# Altium footprint library ECE453-Interface.PcbLib: 37 footprints (part 2 of 3)
Each footprint in its own frame and in the unit in brackets; x right, y up, seen from the top. Pads: shape width x height; smd on the part's side, far side on the other; paste and mask are expansions set on the pad; w line width, h text height; cw(c..) or ccw(c..) is an arc to the next point about the centre after c.
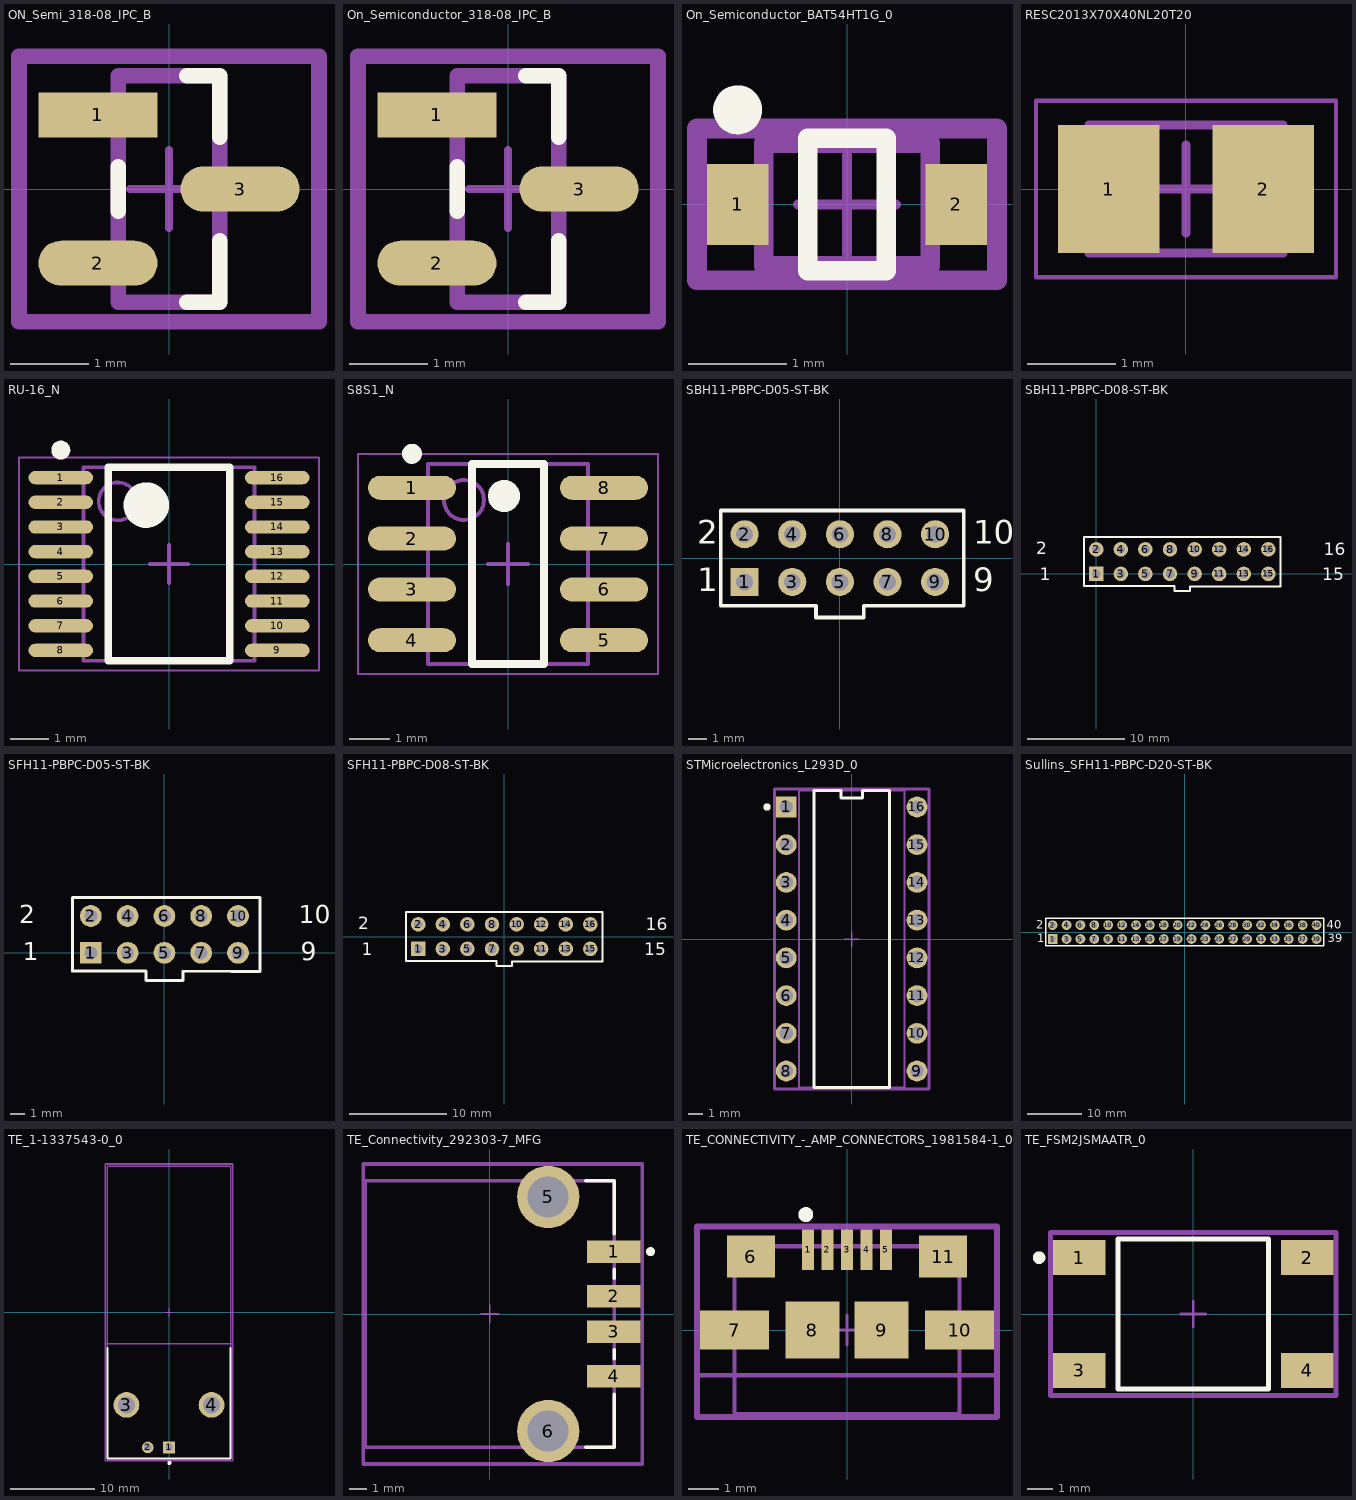
[diagram p1: the footprints below, top view; thin cyan lines are the x and y axes]

## ON_Semi_318-08_IPC_B [mm] "npn"
pads (3):
  rect 1.524x0.578 smd paste+0 mask+0: 1(-0.91,0.95)
  rrect100% 1.524x0.578 smd paste+0 mask+0: 2(-0.91,-0.95) 3(0.91,0)
Top Overlay:
  lines w0.2: -0.65,-0.286 -0.65,0.286 ; 0.227,-1.45 0.65,-1.45 0.65,-0.664 ; 0.227,1.45 0.65,1.45 0.65,0.664
Mechanical 10:
  lines w0.2: -1.922,-1.7 1.922,-1.7 1.922,1.7 -1.922,1.7 -1.922,-1.7
Mechanical 12:
  lines w0.2: -0.65,-1.45 0.65,-1.45 0.65,1.45 -0.65,1.45 -0.65,-1.45
Mechanical 15:
  lines w0.1: -0.5,0 0.5,0 ; 0,-0.5 0,0.5
  lines w0.2: -1.922,-1.7 1.922,-1.7 1.922,1.7 -1.922,1.7 -1.922,-1.7
3D body "Trans_ON_Semi_BC847BLT1G_eec.STEP": height 0.25, standoff 0, extent -1.922,-1.7 1.922,1.7

## On_Semiconductor_318-08_IPC_B [mm] "n=fet"
pads (3):
  rect 1.524x0.578 smd paste+0 mask+0: 1(-0.91,0.95)
  rrect100% 1.524x0.578 smd paste+0 mask+0: 2(-0.91,-0.95) 3(0.91,0)
Top Overlay:
  lines w0.2: -0.65,-0.286 -0.65,0.286 ; 0.227,-1.45 0.65,-1.45 0.65,-0.664 ; 0.227,1.45 0.65,1.45 0.65,0.664
Mechanical 10:
  lines w0.2: -1.922,-1.7 -1.922,1.7 1.922,1.7 1.922,-1.7 -1.922,-1.7
Mechanical 12:
  lines w0.2: -0.65,-1.45 -0.65,1.45 0.65,1.45 0.65,-1.45 -0.65,-1.45
Mechanical 15:
  lines w0.1: -0.5,0 0.5,0 ; 0,-0.5 0,0.5
  lines w0.2: -1.922,-1.7 -1.922,1.7 1.922,1.7 1.922,-1.7 -1.922,-1.7
3D body "Trans_On_Semiconductor_BSS138LT3G_eec.STEP": height 0.25, standoff 0, extent -1.922,-1.7 1.922,1.7

## On_Semiconductor_BAT54HT1G_0 [mm] "schotky"
pads (2):
  rect 0.63x0.83 smd paste+0 mask+0: 1(-1.115,0) 2(1.115,0)
Top Overlay:
  circle w0.25: c-1.115,0.965 r0.125
  lines w0.2: -0.4,-0.675 0.4,-0.675 0.4,0.675 -0.4,0.675 -0.4,-0.675
Mechanical 10:
  lines w0.2: -1.53,-0.775 1.53,-0.775 1.53,0.775 -1.53,0.775 -1.53,-0.775
Mechanical 12:
  lines w0.2: -0.85,-0.625 0.85,-0.625 0.85,0.625 -0.85,0.625 -0.85,-0.625
Mechanical 15:
  lines w0.1: -0.5,0 0.5,0 ; 0,-0.5 0,0.5
  lines w0.2: -1.53,-0.775 1.53,-0.775 1.53,0.775 -1.53,0.775 -1.53,-0.775
3D body "Diode_On_Semiconductor_BAT54HT1G_eec.STEP": height 0.25, standoff 0, extent -1.53,-0.775 1.53,0.775

## RESC2013X70X40NL20T20 [mm] "Chip Resistor, 2-Leads, Body 2.2x1.35mm, IPC Medium Density"
height 0.7
pads (2):
  rect 1.15x1.45 smd: 1(-0.875,0) 2(0.875,0)
Mechanical 13:
  lines w0.1: -1.1,-0.725 1.1,-0.725 1.1,0.725 -1.1,0.725 -1.1,-0.725
Mechanical 15:
  lines w0.05: -1.7,-1 1.7,-1 1.7,1 -1.7,1 -1.7,-1
  lines w0.1: -0.5,0 0.5,0 ; 0,-0.5 0,0.5
3D body: height 0.7, standoff 0, extent -1.1,-0.725 -0.7,0.725
3D body: height 0.7, standoff 0, extent -0.7,-0.725 0.7,0.725
3D body: height 0.7, standoff 0, extent 0.7,-0.725 1.1,0.725

## RU-16_N [mm] "capacitive moisture sensor a2d"
height 1.2
pads (16):
  oval 1.7x0.35 smd: 1(-2.85,2.275) 2(-2.85,1.625) 3(-2.85,0.975) 4(-2.85,0.325) 5(-2.85,-0.325) 6(-2.85,-0.975) 7(-2.85,-1.625) 8(-2.85,-2.275) 9(2.85,-2.275) 10(2.85,-1.625) 11(2.85,-0.975) 12(2.85,-0.325) 13(2.85,0.325) 14(2.85,0.975) 15(2.85,1.625) 16(2.85,2.275)
Top Overlay:
  circle w0.6: c-0.6,1.55 r0.3
  circle w0.25: c-2.85,3 r0.125
  lines w0.2: -1.6,-2.55 1.6,-2.55 1.6,2.55 -1.6,2.55 -1.6,-2.55
Mechanical 13:
  circle w0.1: c-1.35,1.65 r0.5
  lines w0.1: -2.25,-2.55 2.25,-2.55 2.25,2.55 -2.25,2.55 -2.25,-2.55
Mechanical 15:
  lines w0.05: -3.95,-2.8 3.95,-2.8 3.95,2.8 -3.95,2.8 -3.95,-2.8
  lines w0.1: -0.5,0 0.5,0 ; 0,-0.5 0,0.5
3D body: height 1.2, standoff 0.05, extent -2.25,-2.55 2.25,2.55

## S8S1_N [mm] "moisture sensor mcu"
height 1.75
pads (8):
  oval 2.2x0.6 smd: 1(-2.4,1.905) 2(-2.4,0.635) 3(-2.4,-0.635) 4(-2.4,-1.905) 5(2.4,-1.905) 6(2.4,-0.635) 7(2.4,0.635) 8(2.4,1.905)
Top Overlay:
  circle w0.4: c-0.1,1.7 r0.2
  circle w0.25: c-2.4,2.755 r0.125
  lines w0.2: -0.9,-2.5 0.9,-2.5 0.9,2.5 -0.9,2.5 -0.9,-2.5
Mechanical 13:
  circle w0.1: c-1.1,1.6 r0.5
  lines w0.1: -2,-2.5 2,-2.5 2,2.5 -2,2.5 -2,-2.5
Mechanical 15:
  lines w0.05: -3.75,-2.75 3.75,-2.75 3.75,2.75 -3.75,2.75 -3.75,-2.75
  lines w0.1: -0.5,0 0.5,0 ; 0,-0.5 0,0.5
3D body: height 1.75, standoff 0.1, extent -2,-2.5 2,2.5

## SBH11-PBPC-D05-ST-BK [mm] "Connector; Header; 5x2 Position"
pads (10):
  rect 1.5x1.5 hole 0.9: 1(-5.08,-1.27)
  round 1.5 hole 0.9: 2(-5.08,1.27) 3(-2.54,-1.27) 4(-2.54,1.27) 5(0,-1.27) 6(0,1.27) 7(2.54,-1.27) 8(2.54,1.27) 9(5.08,-1.27) 10(5.08,1.27)
Top Overlay:
  lines w0.2: -6.35,-2.54 -6.35,2.54 6.604,2.54 6.604,-2.54 ; -6.34,-2.538 -1.27,-2.538 -1.27,-3.175 1.27,-3.175 1.27,-2.54 4.592,-2.54 ; 4.599,-2.547 6.604,-2.547
  text "10" at 7.112,0.762 h1.27
  text "9" at 7.112,-1.778 h1.27
  text "1" at -7.62,-1.778 h1.27
  text "2" at -7.62,0.762 h1.27
3D body "SBH11-_ _ _C-D05-ST-_ _.STEP": height 8.95, standoff -3.15, extent -10.1,-4.445 10.1,4.655

## SBH11-PBPC-D08-ST-BK [mm] "Connector; Header; 8x2 Position"
pads (16):
  rect 1.5x1.5 hole 0.9: 1(0,0)
  round 1.5 hole 0.9: 2(0,2.54) 3(2.54,0) 4(2.54,2.54) 5(5.08,0) 6(5.08,2.54) 7(7.62,0) 8(7.62,2.54) 9(10.16,0) 10(10.16,2.54) 11(12.7,0) 12(12.7,2.54) 13(15.24,0) 14(15.24,2.54) 15(17.78,0) 16(17.78,2.54)
Top Overlay:
  lines w0.2: -1.27,-1.27 -1.27,3.81 19.05,3.81 19.05,-1.27 ; -1.26,-1.268 8.1,-1.268 8.1,-1.758 8.102,-1.756 9.679,-1.756 9.679,-1.277 19.027,-1.277 19.061,-1.243
  text "2" at -6.223,2.032 h1.27
  text "1" at -5.842,-0.635 h1.27
  text "15" at 23.368,-0.635 h1.27
  text "16" at 23.495,1.905 h1.27
3D body "SBH11-_ _ _C-D08-ST-_ _.STEP": height 9.3, standoff -2.8, extent -4.959,-3.196 22.861,5.904

## SFH11-PBPC-D05-ST-BK [mm] "CONN HEADR FMALE 10POS .1\" DL AU"
pads (10):
  rect 1.5x1.5 hole 0.9: 1(-5.08,0)
  round 1.5 hole 0.9: 2(-5.08,2.54) 3(-2.54,0) 4(-2.54,2.54) 5(0,0) 6(0,2.54) 7(2.54,0) 8(2.54,2.54) 9(5.08,0) 10(5.08,2.54)
Top Overlay:
  lines w0.2: -6.35,-1.27 -6.35,3.81 6.604,3.81 6.604,-1.27 ; -6.34,-1.268 -1.27,-1.268 -1.27,-1.905 1.27,-1.905 1.27,-1.27 4.592,-1.27 ; 4.599,-1.277 6.604,-1.277
  text "10" at 9.271,2.032 h1.27
  text "9" at 9.398,-0.508 h1.27
  text "1" at -9.779,-0.508 h1.27
  text "2" at -10.033,2.032 h1.27
3D body "SFH11-P_ _C-D05-ST-_ _.STEP": height 8.85, standoff -2.85, extent -8.763,-2.611 9.017,4.389

## SFH11-PBPC-D08-ST-BK [mm] "CONN HEADR FMALE 16POS .1\" DL AU"
pads (16):
  rect 1.5x1.5 hole 0.9: 1(-8.89,-1.27)
  round 1.5 hole 0.9: 2(-8.89,1.27) 3(-6.35,-1.27) 4(-6.35,1.27) 5(-3.81,-1.27) 6(-3.81,1.27) 7(-1.27,-1.27) 8(-1.27,1.27) 9(1.27,-1.27) 10(1.27,1.27) 11(3.81,-1.27) 12(3.81,1.27) 13(6.35,-1.27) 14(6.35,1.27) 15(8.89,-1.27) 16(8.89,1.27)
Top Overlay:
  lines w0.2: -10.16,-2.54 -10.16,2.54 10.16,2.54 10.16,-2.54 ; -10.15,-2.538 -0.79,-2.538 -0.79,-3.028 -0.788,-3.026 0.789,-3.026 0.789,-2.547 10.137,-2.547 10.171,-2.513
  text "16" at 14.605,0.635 h1.27
  text "15" at 14.478,-1.905 h1.27
  text "1" at -14.732,-1.905 h1.27
  text "2" at -15.113,0.762 h1.27
3D body "SFH11-P_ _C-D08-ST-_ _.STEP": height 8.85, standoff -2.85, extent -12.573,-4.135 12.827,2.865

## STMicroelectronics_L293D_0 [mm]
pads (16):
  rect 1.4x1.4 hole 0.9 paste-1000 mask+0: 1(-4.4,8.89)
  round 1.4 hole 0.9 paste-1000 mask+0: 2(-4.4,6.35) 3(-4.4,3.81) 4(-4.4,1.27) 5(-4.4,-1.27) 6(-4.4,-3.81) 7(-4.4,-6.35) 8(-4.4,-8.89) 9(4.4,-8.89) 10(4.4,-6.35) 11(4.4,-3.81) 12(4.4,-1.27) 13(4.4,1.27) 14(4.4,3.81) 15(4.4,6.35) 16(4.4,8.89)
Top Overlay:
  circle w0.25: c-5.7,8.89 r0.125
  lines w0.2: -2.55,-10 -2.55,10 -0.729,10 -0.729,9.5 0.729,9.5 0.729,10 2.55,10 2.55,-10 -2.55,-10
Mechanical 10:
  lines w0.2: -5.2,-10.1 5.2,-10.1 5.2,10.1 -5.2,10.1 -5.2,-10.1
Mechanical 12:
  lines w0.15: -3.55,-10 3.55,-10 3.55,10 -3.55,10 -3.55,-10
Mechanical 15:
  lines w0.1: -0.5,0 0.5,0 ; 0,-0.5 0,0.5
  lines w0.2: -5.2,-10.1 5.2,-10.1 5.2,10.1 -5.2,10.1 -5.2,-10.1
3D body "3dmodel.step": height 0.25, standoff 0, extent -5.2,-10.1 5.2,10.1

## Sullins_SFH11-PBPC-D20-ST-BK [mil] "CONN HEADER .100\" 40 POS"
height 335
pads (40):
  rect 70x70 hole 40: 1(-950,-50)
  round 70 hole 40: 2(-950,50) 3(-850,-50) 4(-850,50) 5(-750,-50) 6(-750,50) 7(-650,-50) 8(-650,50) 9(-550,-50) 10(-550,50) 11(-450,-50) 12(-450,50) 13(-350,-50) 14(-350,50) 15(-250,-50) 16(-250,50) 17(-150,-50) 18(-150,50) 19(-50,-50) 20(-50,50) 21(50,-50) 22(50,50) 23(150,-50) 24(150,50) 25(250,-50) 26(250,50) 27(350,-50) 28(350,50) 29(450,-50) 30(450,50) 31(550,-50) 32(550,50) 33(650,-50) 34(650,50) 35(750,-50) 36(750,50) 37(850,-50) 38(850,50) 39(950,-50) 40(950,50)
Top Overlay:
  lines w10: -1000,-100 1000,-100 1000,100 -1000,100 -1000,-100
  text "39" at 1030,-75 h60
  text "40" at 1025,25 h60
  text "2" at -1070,25 h60
  text "1" at -1060,-75 h60
Bottom Overlay:
  lines w10: -100,-100 -100,-200 100,-200 100,-100 ; 750,100 1000,100 1000,-100 -1000,-100 ; 800,100 -1000,100 ; -1000,-100 -1000,100 ; -1000,-100 -1000,100
Mechanical 15:
  text "+" at -20,-30 h60
3D body "Sullins40pinFemale.STEP": height 349.4, standoff -370.68, extent -999.01,-96.85 999.01,100

## TE_1-1337543-0_0 [mm] "bnc connector"
pads (4):
  rect 1.39x1.39 hole 0.89 paste-1000 mask+0: 1(0,-16.13)
  round 1.39 hole 0.89 paste-1000 mask+0: 2(-2.54,-16.13)
  round 3.06 hole 2.01 paste-1000 mask+0: 3(-5.08,-11.05) 4(5.08,-11.05)
Top Overlay:
  circle w0.25: c0.05,-17.98 r0.125
  lines w0.2: -7.35,-4.25 -7.35,-17.45 7.35,-17.45 7.35,-4.25
Mechanical 10:
  lines w0.2: -7.6,-17.7 -7.6,17.7 7.6,17.7 7.6,-17.7 -7.6,-17.7
  text ".Designator" at 0,0 h1
Mechanical 12:
  lines w0.15: -7.6,-3.75 7.6,-3.75 ; -7.35,-17.45 -7.35,17.45 7.35,17.45 7.35,-17.45 -7.35,-17.45
Mechanical 15:
  lines w0.1: -0.5,0 0.5,0 ; 0,-0.5 0,0.5
  lines w0.2: -7.6,-17.7 -7.6,17.7 7.6,17.7 7.6,-17.7 -7.6,-17.7
3D body "3dmodel.step": height 0.25, standoff 0, extent -7.6,-17.7 7.6,17.7

## TE_Connectivity_292303-7_MFG [mm]
pads (6):
  rect 3x1.25 smd paste+0 mask+0: 1(6.96,3.5) 2(6.96,1) 3(6.96,-1) 4(6.96,-3.5)
  round 3.5 hole 2.3 paste-1000 mask+0: 5(3.28,6.57) 6(3.28,-6.57)
Top Overlay:
  circle w0.25: c9.025,3.5 r0.125
  lines w0.2: 5.405,-7.47 7,-7.47 7,-4.5 ; 5.405,7.47 7,7.47 7,4.5 ; 7,-2.5 7,-2 ; 7,2 7,2.5
Mechanical 10:
  lines w0.2: -7.1,-8.42 8.56,-8.42 8.56,8.42 -7.1,8.42 -7.1,-8.42
  text ".Designator" at 0.73,0 h1
Mechanical 12:
  lines w0.2: -7,-7.47 7,-7.47 7,7.47 -7,7.47 -7,-7.47
Mechanical 15:
  lines w0.1: -0.5,0 0.5,0 ; 0,-0.5 0,0.5
  lines w0.2: -7.1,-8.42 8.56,-8.42 8.56,8.42 -7.1,8.42 -7.1,-8.42
3D body "Conn_TE_Connectivity_292303-7_eec.STEP": height 0.25, standoff 0, extent -7.1,-8.42 8.56,8.42

## TE_CONNECTIVITY_-_AMP_CONNECTORS_1981584-1_0 [mm]
pads (11):
  rect 0.4x1.35 smd paste+0 mask+0: 1(-1.3,2.675) 2(-0.65,2.675) 3(0,2.675) 4(0.65,2.675) 5(1.3,2.675)
  rect 1.6x1.4 smd paste+0 mask+0: 6(-3.2,2.45) 11(3.2,2.45)
  rect 2.3x1.3 smd paste+0 mask+0: 7(-3.75,0) 10(3.75,0)
  rect 1.8x1.9 smd paste+0 mask+0: 8(-1.15,0) 9(1.15,0)
Top Overlay:
  circle w0.25: c-1.375,3.85 r0.125
Mechanical 10:
  lines w0.2: -5,-2.9 -5,3.45 5,3.45 5,-2.9 -5,-2.9
  text ".Designator" at 0,0.275 h1
Mechanical 12:
  lines w0.15: -5,-1.5 5,-1.5 ; -3.75,-2.8 -3.75,2.8 3.75,2.8 3.75,-2.8 -3.75,-2.8
Mechanical 15:
  lines w0.1: -0.5,0 0.5,0 ; 0,-0.5 0,0.5
  lines w0.2: -5,-2.9 -5,3.45 5,3.45 5,-2.9 -5,-2.9
3D body "3dmodel.step": height 0.25, standoff 0, extent -5,-2.9 5,3.45

## TE_FSM2JSMAATR_0 [mm]
pads (4):
  rect 2.1x1.4 smd paste+0 mask+0: 1(-4.55,2.25) 2(4.55,2.25) 3(-4.55,-2.25) 4(4.55,-2.25)
Top Overlay:
  circle w0.25: c-6.15,2.25 r0.125
  lines w0.2: -3,-3 3,-3 3,3 -3,3 -3,-3
Mechanical 10:
  lines w0.2: -5.7,-3.25 5.7,-3.25 5.7,3.25 -5.7,3.25 -5.7,-3.25
Mechanical 12:
  lines w0.15: -3,-3 3,-3 3,3 -3,3 -3,-3
Mechanical 15:
  lines w0.1: -0.5,0 0.5,0 ; 0,-0.5 0,0.5
  lines w0.2: -5.7,-3.25 5.7,-3.25 5.7,3.25 -5.7,3.25 -5.7,-3.25
3D body "3dmodel.step": height 0.25, standoff 0, extent -5.7,-3.25 5.7,3.25